# Altium integrated library 860020472003.IntLib: 1 symbol
Pins are listed as number, name and electrical type; pins without a type are passive.

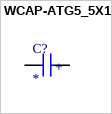
[diagram p0: symbol WCAP-ATG5_5X11]

## WCAP-ATG5_5X11
designator C?
MF: {'manufacturer': u'W\xfcrth Elektronik'}; MP: 860020472003; Package: None; Price: None; Value: *; Availability: Unavailable
footprint WCAP-ATG5_5X11(DXL)
pins: 1 POS, 2 NEG
text: +